# Altium integrated library ON Semi Low VCE(Sat) Transistors.IntLib: 130 symbols (part 2 of 3)
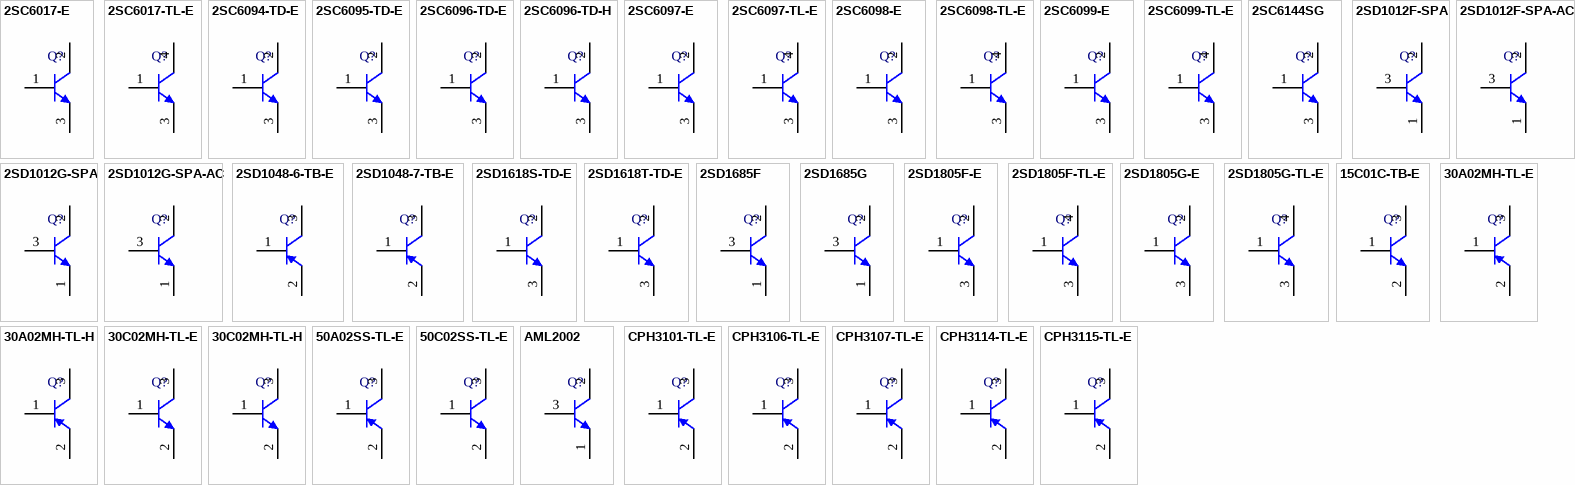
[diagram p4: symbols 2SC6017-E to CPH3115-TL-E]

## 2SC6097-TL-E
designator Q?
Bipolar Transistor, 60 V, 3 A, Low VCE(sat), NPN Single, 3-Pin DPAK, Pb-Free, Tape and Reel; Manufacturer: On Semiconductor; PartNumber: 2SC6097-TL-E; hFE Max: 600; hFE Min: 300; IC Continuous (A): 3; V(BR)CEO Min (V): 60; PackageReference: DPAK-3; PackageDescription: 3-Pin Flange Mount, Body 6.5 x 5.5 mm, Pitch 2.3 mm; Supplier 1: Digi-Key; Supplier Part Number 1: 2SC6097-TL-E-ND; Supplier 2: Newark; Supplier Part Number 2: 52T9089; Supplier 3: Mouser; Supplier Part Number 3: 863-2SC6097-TL-E; Packing: Tape and Reel; Polarity: NPN; RoHS: TRUE; Mounting Technology: Surface Mount; ComponentLink1Description: Manufacturer URL; ComponentLink1URL: http://www.onsemi.com/; ComponentLink2Description: Datasheet; ComponentLink2URL: http://www.onsemi.com/pub_link/Collateral/2SC6097-D.PDF; ComponentLink3Description: Package Specification; ComponentLink3URL: http://www.onsemi.com/pub_link/Collateral/2SB1204-D.PDF
footprint ONSC-DPAK-3_V (DPAK, 3-Leads, Body 6.5x5.5mm, Pitch 2.3mm)
pins: 1 B, 3 E, 4 C

## 2SC6098-E
designator Q?
Bipolar Transistor, 80 V, 2.5 A, Low VCE(sat), NPN Single, 3-Pin IPAK, Pb-Free, Bulk Bag; Manufacturer: On Semiconductor; PartNumber: 2SC6098-E; hFE Max: 600; hFE Min: 300; IC Continuous (A): 2.5; V(BR)CEO Min (V): 80; PackageVersion: Rev. O, 01/2012; PackageReference: IPAK-3-369AJ; PackageDescription: 3-Pin Flange Mount, Vertical Straight Lead, Body 6.5 x 5.5 mm, Pitch 2.3 mm; Supplier 1: Digi-Key; Supplier Part Number 1: 2SC6098-E-ND; Supplier 2: Mouser; Supplier Part Number 2: 863-2SC6098-E; Packing: Bulk Bag; Polarity: NPN; RoHS: TRUE; Mounting Technology: Through Hole; ComponentLink1Description: Manufacturer URL; ComponentLink1URL: http://www.onsemi.com/; ComponentLink2Description: Datasheet; ComponentLink2URL: http://www.onsemi.com/pub_link/Collateral/ENA0413-D.PDF; ComponentLink3Description: Package Specification; ComponentLink3URL: http://www.onsemi.cn/pub_link/Collateral/369AJ.PDF
footprint ONSC-IPAK-3-369AJ (FM, 3-Leads, Body 6.7x2.5mm, Pitch 2.3mm)
pins: 1 B, 2 C, 3 E

## 2SC6098-TL-E
designator Q?
Bipolar Transistor, 80 V, 2.5 A, Low VCE(sat), NPN Single, 3-Pin DPAK, Pb-Free, Tape and Reel; Manufacturer: On Semiconductor; PartNumber: 2SC6098-TL-E; hFE Max: 600; hFE Min: 300; IC Continuous (A): 2.5; V(BR)CEO Min (V): 80; PackageReference: DPAK-3; PackageDescription: 3-Pin Flange Mount, Body 6.5 x 5.5 mm, Pitch 2.3 mm; Supplier 1: Digi-Key; Supplier Part Number 1: 2SC6098-TL-E-ND; Supplier 2: Newark; Supplier Part Number 2: 07W7681; Supplier 3: Mouser; Supplier Part Number 3: 863-2SC6098-TL-E; Packing: Tape and Reel; Polarity: NPN; RoHS: TRUE; Mounting Technology: Surface Mount; ComponentLink1Description: Manufacturer URL; ComponentLink1URL: http://www.onsemi.com/; ComponentLink2Description: Datasheet; ComponentLink2URL: http://www.onsemi.com/pub_link/Collateral/ENA0413-D.PDF; ComponentLink3Description: Package Specification; ComponentLink3URL: http://www.onsemi.com/pub_link/Collateral/2SB1204-D.PDF
footprint ONSC-DPAK-3_V (DPAK, 3-Leads, Body 6.5x5.5mm, Pitch 2.3mm)
pins: 1 B, 3 E, 4 C

## 2SC6099-E
designator Q?
Bipolar Transistor, 100 V, 2 A, Low VCE(sat), NPN Single, 3-Pin IPAK, Pb-Free, Bulk Bag; Manufacturer: On Semiconductor; PartNumber: 2SC6099-E; hFE Max: 600; hFE Min: 300; IC Continuous (A): 2; V(BR)CEO Min (V): 100; VCE(sat) Max (V): 0.165; PackageVersion: Rev. O, 01/2012; PackageReference: IPAK-3-369AJ; PackageDescription: 3-Pin Flange Mount, Vertical Straight Lead, Body 6.5 x 5.5 mm, Pitch 2.3 mm; Supplier 1: Digi-Key; Supplier Part Number 1: 2SC6099-E-ND; Supplier 2: Mouser; Supplier Part Number 2: 863-2SC6099-E; Packing: Bulk Bag; Polarity: NPN; RoHS: TRUE; Mounting Technology: Through Hole; ComponentLink1Description: Manufacturer URL; ComponentLink1URL: http://www.onsemi.com/; ComponentLink2Description: Datasheet; ComponentLink2URL: http://www.onsemi.com/pub_link/Collateral/ENA0435-D.PDF; ComponentLink3Description: Package Specification; ComponentLink3URL: http://www.onsemi.cn/pub_link/Collateral/369AJ.PDF
footprint ONSC-IPAK-3-369AJ (FM, 3-Leads, Body 6.7x2.5mm, Pitch 2.3mm)
pins: 1 B, 2 C, 3 E

## 2SC6099-TL-E
designator Q?
Bipolar Transistor, 100 V, 2 A, Low VCE(sat), NPN Single, 3-Pin DPAK, Pb-Free, Tape and Reel; Manufacturer: On Semiconductor; PartNumber: 2SC6099-TL-E; hFE Max: 600; hFE Min: 300; IC Continuous (A): 2; V(BR)CEO Min (V): 100; VCE(sat) Max (V): 0.165; PackageReference: DPAK-3; PackageDescription: 3-Pin Flange Mount, Body 6.5 x 5.5 mm, Pitch 2.3 mm; Supplier 1: Digi-Key; Supplier Part Number 1: 2SC6099-TL-E-ND; Supplier 2: Mouser; Supplier Part Number 2: 863-2SC6099-TL-E; Packing: Tape and Reel; Polarity: NPN; RoHS: TRUE; Mounting Technology: Surface Mount; ComponentLink1Description: Manufacturer URL; ComponentLink1URL: http://www.onsemi.com/; ComponentLink2Description: Datasheet; ComponentLink2URL: http://www.onsemi.com/pub_link/Collateral/ENA0435-D.PDF; ComponentLink3Description: Package Specification; ComponentLink3URL: http://www.onsemi.com/pub_link/Collateral/2SB1204-D.PDF
footprint ONSC-DPAK-3_V (DPAK, 3-Leads, Body 6.5x5.5mm, Pitch 2.3mm)
pins: 1 B, 3 E, 4 C

## 2SC6144SG
designator Q?
Bipolar Transistor, 50 V, 10 A, Low VCE(sat) NPN, 3-Pin TO-220, Pb-Free, Tube; Manufacturer: On Semiconductor; PartNumber: 2SC6144SG; hFE Max: 560; hFE Min: 200; IC Continuous (A): 10; V(BR)CEO Min (V): 50; VCE(sat) Max (V): 0.36; PackageVersion: Rev. O, 01/2012; PackageReference: TO-220F-3FS-3-221AM; PackageDescription: 3-Pin Flange Mount, Vertical Straight Lead, Body 10.16 x 4.7 mm, Pitch 2.54 mm; Supplier 1: Digi-Key; Supplier Part Number 1: 2SC6144SGOS-ND; Supplier 2: Newark; Supplier Part Number 2: 07W7684; Supplier 3: Mouser; Supplier Part Number 3: 863-2SC6144SG; Polarity: NPN; RoHS: TRUE; Mounting Technology: Through Hole; ComponentLink1Description: Manufacturer URL; ComponentLink1URL: http://www.onsemi.com/; ComponentLink2Description: Datasheet; ComponentLink2URL: http://www.onsemi.com/pub_link/Collateral/ENA1800-D.PDF; ComponentLink3Description: Package Specification; ComponentLink3URL: http://www.onsemi.com/pub_link/Collateral/221AM.PDF
footprint ONSC-TO-220F-3FS-3-221AM (FM, 3-Leads, Body 10.4x4.9mm, Pitch 2.54mm)
pins: 1 B, 2 C, 3 E

## 2SD1012F-SPA
designator Q?
Bipolar Transistor, 15 V, 0.7 A, Low VCE(sat), NPN Single, 3-Pin TO-92, Pb-Free, Bulk Bag; Manufacturer: On Semiconductor; PartNumber: 2SD1012F-SPA; hFE Max: 320; hFE Min: 160; IC Continuous (A): 0.7; V(BR)CEO Min (V): 15; PackageVersion: Rev. O, 02/2012; PackageReference: TO-92-3-135AC; PackageDescription: 3-Pin Transistor Outline, Body 4 x 2.2 mm, Pitch 1.3 mm; Supplier 1: Digi-Key; Supplier Part Number 1: 2SD1012F-SPA-ND; Supplier 2: Mouser; Supplier Part Number 2: 863-2SD1012F-SPA; Packing: Bulk Bag; Polarity: NPN; RoHS: TRUE; Mounting Technology: Through Hole; ComponentLink1Description: Manufacturer URL; ComponentLink1URL: http://www.onsemi.com/; ComponentLink2Description: Datasheet; ComponentLink2URL: http://www.onsemi.com/pub_link/Collateral/EN0676-D.PDF; ComponentLink3Description: Package Specification; ComponentLink3URL: http://www.onsemi.com/pub_link/Collateral/135AC.PDF
footprint ONSC-TO-92-3-135AC (TO-92, 3-Leads, Body 4x2.2mm, Pitch 1.3mm)
pins: 1 E, 2 C, 3 B

## 2SD1012F-SPA-AC
designator Q?
Bipolar Transistor, 15 V, 0.7 A, Low VCE(sat), NPN Single, 3-Pin TO-92, Pb-Free, Fan-Fold; Manufacturer: On Semiconductor; PartNumber: 2SD1012F-SPA-AC; hFE Max: 320; hFE Min: 160; IC Continuous (A): 0.7; V(BR)CEO Min (V): 15; PackageVersion: Rev. O, 02/2012; PackageReference: TO-92-3-135AC; PackageDescription: 3-Pin Transistor Outline, Body 4 x 2.2 mm, Pitch 1.3 mm; Supplier 1: Digi-Key; Supplier Part Number 1: 2SD1012F-SPA-AC-ND; Supplier 2: Mouser; Supplier Part Number 2: 863-2SD1012F-SPA-AC; Packing: Fan-Fold; Polarity: NPN; RoHS: TRUE; Mounting Technology: Through Hole; ComponentLink1Description: Manufacturer URL; ComponentLink1URL: http://www.onsemi.com/; ComponentLink2Description: Datasheet; ComponentLink2URL: http://www.onsemi.com/pub_link/Collateral/EN0676-D.PDF; ComponentLink3Description: Package Specification; ComponentLink3URL: http://www.onsemi.com/pub_link/Collateral/135AC.PDF
footprint ONSC-TO-92-3-135AC (TO-92, 3-Leads, Body 4x2.2mm, Pitch 1.3mm)
pins: 1 E, 2 C, 3 B

## 2SD1012G-SPA
designator Q?
Bipolar Transistor, 15 V, 0.7 A, Low VCE(sat), NPN Single, 3-Pin TO-92, Pb-Free, Bulk Bag; Manufacturer: On Semiconductor; PartNumber: 2SD1012G-SPA; hFE Max: 560; hFE Min: 280; IC Continuous (A): 0.7; V(BR)CEO Min (V): 15; PackageVersion: Rev. O, 02/2012; PackageReference: TO-92-3-135AC; PackageDescription: 3-Pin Transistor Outline, Body 4 x 2.2 mm, Pitch 1.3 mm; Supplier 1: Digi-Key; Supplier Part Number 1: 2SD1012G-SPA-ND; Supplier 2: Mouser; Supplier Part Number 2: 863-2SD1012G-SPA; Packing: Bulk Bag; Polarity: NPN; RoHS: TRUE; Mounting Technology: Through Hole; ComponentLink1Description: Manufacturer URL; ComponentLink1URL: http://www.onsemi.com/; ComponentLink2Description: Datasheet; ComponentLink2URL: http://www.onsemi.com/pub_link/Collateral/EN0676-D.PDF; ComponentLink3Description: Package Specification; ComponentLink3URL: http://www.onsemi.com/pub_link/Collateral/135AC.PDF
footprint ONSC-TO-92-3-135AC (TO-92, 3-Leads, Body 4x2.2mm, Pitch 1.3mm)
pins: 1 E, 2 C, 3 B

## 2SD1012G-SPA-AC
designator Q?
Bipolar Transistor, 15 V, 0.7 A, Low VCE(sat), NPN Single, 3-Pin TO-92, Pb-Free, Fan-Fold; Manufacturer: On Semiconductor; PartNumber: 2SD1012G-SPA-AC; hFE Max: 560; hFE Min: 280; IC Continuous (A): 0.7; V(BR)CEO Min (V): 15; PackageVersion: Rev. O, 02/2012; PackageReference: TO-92-3-135AC; PackageDescription: 3-Pin Transistor Outline, Body 4 x 2.2 mm, Pitch 1.3 mm; Supplier 1: Digi-Key; Supplier Part Number 1: 2SD1012G-SPA-AC-ND; Supplier 2: Mouser; Supplier Part Number 2: 863-2SD1012G-SPA-AC; Packing: Fan-Fold; Polarity: NPN; RoHS: TRUE; Mounting Technology: Through Hole; ComponentLink1Description: Manufacturer URL; ComponentLink1URL: http://www.onsemi.com/; ComponentLink2Description: Datasheet; ComponentLink2URL: http://www.onsemi.com/pub_link/Collateral/EN0676-D.PDF; ComponentLink3Description: Package Specification; ComponentLink3URL: http://www.onsemi.com/pub_link/Collateral/135AC.PDF
footprint ONSC-TO-92-3-135AC (TO-92, 3-Leads, Body 4x2.2mm, Pitch 1.3mm)
pins: 1 E, 2 C, 3 B

## 2SD1048-6-TB-E
designator Q?
Bipolar Transistor, 15 V, 0.7 A, Low VCE(sat), NPN Single, 3-Pin SOT23, Pb-Free, Tape and Reel; Manufacturer: On Semiconductor; PartNumber: 2SD1048-6-TB-E; hFE Max: 400; hFE Min: 200; IC Continuous (A): 0.7; V(BR)CEO Min (V): 15; PackageReference: SOT23-3-318AN; PackageDescription: 3-Pin Small Outline Transistor, Body 2.9 x 1.5 mm, Pitch 0.95 mm; Supplier 1: Digi-Key; Supplier Part Number 1: 2SD1048-6-TB-E-ND; Supplier 2: Mouser; Supplier Part Number 2: 863-2SD1048-6-TB-E; Packing: Tape and Reel; Polarity: NPN; RoHS: TRUE; Mounting Technology: Surface Mount; ComponentLink1Description: Manufacturer URL; ComponentLink1URL: http://www.onsemi.com/; ComponentLink2Description: Datasheet; ComponentLink2URL: http://www.onsemi.com/pub_link/Collateral/EN694-D.PDF; ComponentLink3Description: Package Specification; ComponentLink3URL: http://www.onsemi.com/pub_link/Collateral/EN694-D.PDF
footprint ONSC-SOT23-3-318AN_V (SOT23, 3-Leads, Body 2.9x1.5mm, Pitch 0.95mm)
pins: 1 B, 2 E, 3 C

## 2SD1048-7-TB-E
designator Q?
Bipolar Transistor, 15 V, 0.7 A, Low VCE(sat), NPN Single, 3-Pin SOT23, Pb-Free, Tape and Reel; Manufacturer: On Semiconductor; PartNumber: 2SD1048-7-TB-E; hFE Max: 600; hFE Min: 300; IC Continuous (A): 0.7; V(BR)CEO Min (V): 15; PackageReference: SOT23-3-318AN; PackageDescription: 3-Pin Small Outline Transistor, Body 2.9 x 1.5 mm, Pitch 0.95 mm; Supplier 1: Digi-Key; Supplier Part Number 1: 2SD1048-7-TB-E-ND; Supplier 2: Mouser; Supplier Part Number 2: 863-2SD1048-7-TB-E; Packing: Tape and Reel; Polarity: NPN; RoHS: TRUE; Mounting Technology: Surface Mount; ComponentLink1Description: Manufacturer URL; ComponentLink1URL: http://www.onsemi.com/; ComponentLink2Description: Datasheet; ComponentLink2URL: http://www.onsemi.com/pub_link/Collateral/EN694-D.PDF; ComponentLink3Description: Package Specification; ComponentLink3URL: http://www.onsemi.com/pub_link/Collateral/EN694-D.PDF
footprint ONSC-SOT23-3-318AN_V (SOT23, 3-Leads, Body 2.9x1.5mm, Pitch 0.95mm)
pins: 1 B, 2 E, 3 C

## 2SD1618S-TD-E
designator Q?
Bipolar Transistor, 15 V, 0.7 A, Low VCE(sat), NPN Single, 3-Pin SOT-89, Pb-Free, Tape and Reel; Manufacturer: On Semiconductor; PartNumber: 2SD1618S-TD-E; hFE Max: 280; hFE Min: 140; IC Continuous (A): 0.7; V(BR)CEO Min (V): 15; PackageVersion: Rev. O, 04/2012; PackageReference: SOT-89_PCP-1-3-419AU; PackageDescription: 3-Pin Small Outline Transistor, Body 4.5 x 2.5 mm, Pitch 1.5 mm; Supplier 1: Digi-Key; Supplier Part Number 1: 2SD1618S-TD-E-ND; Supplier 2: Mouser; Supplier Part Number 2: 863-2SD1618S-TD-E; Packing: Tape and Reel; Polarity: NPN; RoHS: TRUE; Mounting Technology: Surface Mount; ComponentLink1Description: Manufacturer URL; ComponentLink1URL: http://www.onsemi.com/; ComponentLink2Description: Datasheet; ComponentLink2URL: http://www.onsemi.com/pub_link/Collateral/2SD1618.PDF; ComponentLink3Description: Package Specification; ComponentLink3URL: http://www.onsemi.com/pub_link/Collateral/ENA1087-D.PDF
footprint ONSC-SOT-89_PCP-1-3-419AU_V (SOT89, 3-Leads, Body 4.5x2.5mm, Pitch 1.5mm)
pins: 1 B, 2 C, 3 E

## 2SD1618T-TD-E
designator Q?
Bipolar Transistor, 15 V, 0.7 A, Low VCE(sat), NPN Single, 3-Pin SOT-89, Pb-Free, Tape and Reel; Manufacturer: On Semiconductor; PartNumber: 2SD1618T-TD-E; hFE Max: 400; hFE Min: 200; IC Continuous (A): 0.7; V(BR)CEO Min (V): 15; PackageVersion: Rev. O, 04/2012; PackageReference: SOT-89_PCP-1-3-419AU; PackageDescription: 3-Pin Small Outline Transistor, Body 4.5 x 2.5 mm, Pitch 1.5 mm; Supplier 1: Digi-Key; Supplier Part Number 1: 2SD1618T-TD-E-ND; Supplier 2: Mouser; Supplier Part Number 2: 863-2SD1618T-TD-E; Packing: Tape and Reel; Polarity: NPN; RoHS: TRUE; Mounting Technology: Surface Mount; ComponentLink1Description: Manufacturer URL; ComponentLink1URL: http://www.onsemi.com/; ComponentLink2Description: Datasheet; ComponentLink2URL: http://www.onsemi.com/pub_link/Collateral/2SD1618.PDF; ComponentLink3Description: Package Specification; ComponentLink3URL: http://www.onsemi.com/pub_link/Collateral/ENA1087-D.PDF
footprint ONSC-SOT-89_PCP-1-3-419AU_V (SOT89, 3-Leads, Body 4.5x2.5mm, Pitch 1.5mm)
pins: 1 B, 2 C, 3 E

## 2SD1685F
designator Q?
Bipolar Transistor, 20 V, 5 A, Low VCE(sat), NPN Single, 3-Pin TO-126, Pb-Free, Bulk Bag; Manufacturer: On Semiconductor; PartNumber: 2SD1685F; hFE Max: 320; hFE Min: 160; IC Continuous (A): 5; V(BR)CEO Min (V): 20; VCE(sat) Max (V): 0.5; PackageVersion: Rev. O, 01/2012; PackageReference: TO-126ML-3-77AC; PackageDescription: 3-Pin Flange Mount, Vertical Straight Lead, Body 8 x 3.3 mm, Pitch 2.4 mm; Supplier 1: Digi-Key; Supplier Part Number 1: 2SD1685F-ND; Supplier 2: Mouser; Supplier Part Number 2: 863-2SD1685F; Packing: Bulk Bag; Polarity: NPN; RoHS: TRUE; Mounting Technology: Through Hole; ComponentLink1Description: Manufacturer URL; ComponentLink1URL: http://www.onsemi.com/; ComponentLink2Description: Datasheet; ComponentLink2URL: http://www.onsemi.com/pub_link/Collateral/EN2042-D.PDF; ComponentLink3Description: Package Specification; ComponentLink3URL: http://www.onsemi.com/pub_link/Collateral/77AC.PDF
footprint ONSC-TO-126ML-3-77AC (FM, 3-Leads, Body 8.2x3.5mm, Pitch 2.4mm)
pins: 1 E, 2 C, 3 B

## 2SD1685G
designator Q?
Bipolar Transistor, 20 V, 5 A, Low VCE(sat), NPN Single, 3-Pin TO-126, Pb-Free, Bulk Bag; Manufacturer: On Semiconductor; PartNumber: 2SD1685G; hFE Max: 560; hFE Min: 280; IC Continuous (A): 5; V(BR)CEO Min (V): 20; VCE(sat) Max (V): 0.5; PackageVersion: Rev. O, 01/2012; PackageReference: TO-126ML-3-77AC; PackageDescription: 3-Pin Flange Mount, Vertical Straight Lead, Body 8 x 3.3 mm, Pitch 2.4 mm; Supplier 1: Digi-Key; Supplier Part Number 1: 2SD1685G-ND; Supplier 2: Mouser; Supplier Part Number 2: 863-2SD1685G; Packing: Bulk Bag; Polarity: NPN; RoHS: TRUE; Mounting Technology: Through Hole; ComponentLink1Description: Manufacturer URL; ComponentLink1URL: http://www.onsemi.com/; ComponentLink2Description: Datasheet; ComponentLink2URL: http://www.onsemi.com/pub_link/Collateral/EN2042-D.PDF; ComponentLink3Description: Package Specification; ComponentLink3URL: http://www.onsemi.com/pub_link/Collateral/77AC.PDF
footprint ONSC-TO-126ML-3-77AC (FM, 3-Leads, Body 8.2x3.5mm, Pitch 2.4mm)
pins: 1 E, 2 C, 3 B

## 2SD1805F-E
designator Q?
Bipolar Transistor, 20 V, 5 A, Low VCE(sat), NPN Single, 3-Pin IPAK, Pb-Free, Bulk Bag; Manufacturer: On Semiconductor; PartNumber: 2SD1805F-E; hFE Max: 320; hFE Min: 160; IC Continuous (A): 5; V(BR)CEO Min (V): 20; VCE(sat) Max (V): 0.5; PackageVersion: Rev. O, 01/2012; PackageReference: IPAK-3-369AJ; PackageDescription: 3-Pin Flange Mount, Vertical Straight Lead, Body 6.5 x 5.5 mm, Pitch 2.3 mm; Supplier 1: Digi-Key; Supplier Part Number 1: 2SD1805F-E-ND; Supplier 2: Mouser; Supplier Part Number 2: 863-2SD1805F-E; Packing: Bulk Bag; Polarity: NPN; RoHS: TRUE; Mounting Technology: Through Hole; ComponentLink1Description: Manufacturer URL; ComponentLink1URL: http://www.onsemi.com/; ComponentLink2Description: Datasheet; ComponentLink2URL: http://www.onsemi.com/pub_link/Collateral/2SD1805-D.PDF; ComponentLink3Description: Package Specification; ComponentLink3URL: http://www.onsemi.cn/pub_link/Collateral/369AJ.PDF
footprint ONSC-IPAK-3-369AJ (FM, 3-Leads, Body 6.7x2.5mm, Pitch 2.3mm)
pins: 1 B, 2 C, 3 E

## 2SD1805F-TL-E
designator Q?
Bipolar Transistor, 20 V, 5 A, Low VCE(sat), NPN Single, 3-Pin DPAK, Pb-Free, Tape and Reel; Manufacturer: On Semiconductor; PartNumber: 2SD1805F-TL-E; hFE Max: 320; hFE Min: 160; IC Continuous (A): 5; V(BR)CEO Min (V): 20; VCE(sat) Max (V): 0.5; PackageReference: DPAK-3; PackageDescription: 3-Pin Flange Mount, Body 6.5 x 5.5 mm, Pitch 2.3 mm; Supplier 1: Digi-Key; Supplier Part Number 1: 2SD1805F-TL-E-ND; Supplier 2: Mouser; Supplier Part Number 2: 863-2SD1805F-TL-E; Packing: Tape and Reel; Polarity: NPN; RoHS: TRUE; Mounting Technology: Surface Mount; ComponentLink1Description: Manufacturer URL; ComponentLink1URL: http://www.onsemi.com/; ComponentLink2Description: Datasheet; ComponentLink2URL: http://www.onsemi.com/pub_link/Collateral/2SD1805-D.PDF; ComponentLink3Description: Package Specification; ComponentLink3URL: http://www.onsemi.com/pub_link/Collateral/2SB1204-D.PDF
footprint ONSC-DPAK-3_V (DPAK, 3-Leads, Body 6.5x5.5mm, Pitch 2.3mm)
pins: 1 B, 3 E, 4 C

## 2SD1805G-E
designator Q?
Bipolar Transistor, 20 V, 5 A, Low VCE(sat), NPN Single, 3-Pin IPAK, Pb-Free, Bulk Bag; Manufacturer: On Semiconductor; PartNumber: 2SD1805G-E; hFE Max: 560; hFE Min: 280; IC Continuous (A): 5; V(BR)CEO Min (V): 20; VCE(sat) Max (V): 0.5; PackageVersion: Rev. O, 01/2012; PackageReference: IPAK-3-369AJ; PackageDescription: 3-Pin Flange Mount, Vertical Straight Lead, Body 6.5 x 5.5 mm, Pitch 2.3 mm; Supplier 1: Digi-Key; Supplier Part Number 1: 2SD1805G-E-ND; Supplier 2: Mouser; Supplier Part Number 2: 863-2SD1805G-E; Packing: Bulk Bag; Polarity: NPN; RoHS: TRUE; Mounting Technology: Through Hole; ComponentLink1Description: Manufacturer URL; ComponentLink1URL: http://www.onsemi.com/; ComponentLink2Description: Datasheet; ComponentLink2URL: http://www.onsemi.com/pub_link/Collateral/2SD1805-D.PDF; ComponentLink3Description: Package Specification; ComponentLink3URL: http://www.onsemi.cn/pub_link/Collateral/369AJ.PDF
footprint ONSC-IPAK-3-369AJ (FM, 3-Leads, Body 6.7x2.5mm, Pitch 2.3mm)
pins: 1 B, 2 C, 3 E

## 2SD1805G-TL-E
designator Q?
Bipolar Transistor, 20 V, 5 A, Low VCE(sat), NPN Single, 3-Pin DPAK, Pb-Free, Tape and Reel; Manufacturer: On Semiconductor; PartNumber: 2SD1805G-TL-E; hFE Max: 560; hFE Min: 280; IC Continuous (A): 5; V(BR)CEO Min (V): 20; VCE(sat) Max (V): 0.5; PackageReference: DPAK-3; PackageDescription: 3-Pin Flange Mount, Body 6.5 x 5.5 mm, Pitch 2.3 mm; Supplier 1: Digi-Key; Supplier Part Number 1: 2SD1805G-TL-E-ND; Supplier 2: Mouser; Supplier Part Number 2: 863-2SD1805G-TL-E; Packing: Tape and Reel; Polarity: NPN; RoHS: TRUE; Mounting Technology: Surface Mount; ComponentLink1Description: Manufacturer URL; ComponentLink1URL: http://www.onsemi.com/; ComponentLink2Description: Datasheet; ComponentLink2URL: http://www.onsemi.com/pub_link/Collateral/2SD1805-D.PDF; ComponentLink3Description: Package Specification; ComponentLink3URL: http://www.onsemi.com/pub_link/Collateral/2SB1204-D.PDF
footprint ONSC-DPAK-3_V (DPAK, 3-Leads, Body 6.5x5.5mm, Pitch 2.3mm)
pins: 1 B, 3 E, 4 C

## 15C01C-TB-E
designator Q?
Bipolar Transistor, 15 V, 0.7 A, Low VCE(sat) NPN Single, 3-Pin SC-59, Pb-Free, Tape and Reel; Manufacturer: On Semiconductor; PartNumber: 15C01C-TB-E; hFE Max: 800; hFE Min: 300; IC Continuous (A): 0.7; V(BR)CEO Min (V): 15; VCE(sat) Max (V): 0.3; PackageVersion: Rev. O, 04/2012; PackageReference: SC-59-3-318AN; PackageDescription: 3-Pin Small Outline Transistor, Body 2.9 x 1.5 mm, Pitch 0.95 mm; Supplier 1: Digi-Key; Supplier Part Number 1: 15C01C-TB-E-ND; Supplier 2: Newark; Supplier Part Number 2: 07W7559; Supplier 3: Mouser; Supplier Part Number 3: 863-15C01C-TB-E; Packing: Tape and Reel; Polarity: NPN; RoHS: TRUE; Mounting Technology: Surface Mount; ComponentLink1Description: Manufacturer URL; ComponentLink1URL: http://www.onsemi.com/; ComponentLink2Description: Datasheet; ComponentLink2URL: http://www.onsemi.com/pub_link/Collateral/EN7504-D.PDF; ComponentLink3Description: Package Specification; ComponentLink3URL: http://www.onsemi.com/pub_link/Collateral/318AN.PDF
footprint ONSC-SC-59-3-318AN_V (SOT23, 3-Leads, Body 2.9x1.5mm, Pitch 0.95mm)
pins: 1 B, 2 E, 3 C

## 30A02MH-TL-E
designator Q?
Bipolar Transistor, -30 V, -0.7 A, Low VCE(sat) PNP Single, 3-Pin SC70, Pb-Free, Tape and Reel; Manufacturer: On Semiconductor; PartNumber: 30A02MH-TL-E; hFE Max: 500; hFE Min: 200; VCE(sat) Max (V): -0.22; PackageReference: MCPH-3; PackageDescription: 3-Pin Small Outline Transistor, Body 2 x 1.6 mm, Pitch 0.65 mm; Supplier 1: Digi-Key; Supplier Part Number 1: 30A02MH-TL-E-ND; Supplier 2: Mouser; Supplier Part Number 2: 863-30A02MH-TL-E; IC Continuous (A): -0.7; Packing: Tape and Reel; Polarity: PNP; RoHS: TRUE; V(BR)CEO Min (V): -30; Mounting Technology: Surface Mount; ComponentLink1Description: Manufacturer URL; ComponentLink1URL: http://www.onsemi.com/; ComponentLink2Description: Datasheet; ComponentLink2URL: http://www.onsemi.com/pub_link/Collateral/30A02MH-D.PDF; ComponentLink3Description: Package Specification; ComponentLink3URL: http://www.onsemi.com/pub_link/Collateral/EN7354-D.PDF
footprint ONSC-MCPH-3_V (SOT23, 3-Leads, Body 2x1.6mm, Pitch 0.65mm)
pins: 1 B, 2 E, 3 C

## 30A02MH-TL-H
designator Q?
Bipolar Transistor, -30 V, -0.7 A, Low VCE(sat) PNP Single, 3-Pin SC70, Pb-Free, Tape and Reel; Manufacturer: On Semiconductor; PartNumber: 30A02MH-TL-H; hFE Max: 500; hFE Min: 200; VCE(sat) Max (V): -0.22; PackageReference: MCPH-3; PackageDescription: 3-Pin Small Outline Transistor, Body 2 x 1.6 mm, Pitch 0.65 mm; Supplier 1: Digi-Key; Supplier Part Number 1: 30A02MH-TL-H-ND; Supplier 2: Mouser; Supplier Part Number 2: 863-30A02MH-TL-H; IC Continuous (A): -0.7; Packing: Tape and Reel; Polarity: PNP; RoHS: TRUE; V(BR)CEO Min (V): -30; Mounting Technology: Surface Mount; ComponentLink1Description: Manufacturer URL; ComponentLink1URL: http://www.onsemi.com/; ComponentLink2Description: Datasheet; ComponentLink2URL: http://www.onsemi.com/pub_link/Collateral/30A02MH-D.PDF; ComponentLink3Description: Package Specification; ComponentLink3URL: http://www.onsemi.com/pub_link/Collateral/EN7354-D.PDF
footprint ONSC-MCPH-3_V (SOT23, 3-Leads, Body 2x1.6mm, Pitch 0.65mm)
pins: 1 B, 2 E, 3 C

## 30C02MH-TL-E
designator Q?
Bipolar Transistor, 30 V, 0.7 A, Low VCE(sat) NPN Single, 3-Pin SC70, Pb-Free, Tape and Reel; Manufacturer: On Semiconductor; PartNumber: 30C02MH-TL-E; hFE Max: 800; hFE Min: 300; IC Continuous (A): 0.7; V(BR)CEO Min (V): 30; VCE(sat) Max (V): 0.19; PackageReference: MCPH-3; PackageDescription: 3-Pin Small Outline Transistor, Body 2 x 1.6 mm, Pitch 0.65 mm; Supplier 1: Digi-Key; Supplier Part Number 1: 30C02MH-TL-E-ND; Supplier 2: Mouser; Supplier Part Number 2: 863-30C02MH-TL-E; Packing: Tape and Reel; Polarity: NPN; RoHS: TRUE; Mounting Technology: Surface Mount; ComponentLink1Description: Manufacturer URL; ComponentLink1URL: http://www.onsemi.com/; ComponentLink2Description: Datasheet; ComponentLink2URL: http://www.onsemi.com/pub_link/Collateral/EN7364-D.PDF; ComponentLink3Description: Package Specification; ComponentLink3URL: http://www.onsemi.com/pub_link/Collateral/EN7354-D.PDF
footprint ONSC-MCPH-3_V (SOT23, 3-Leads, Body 2x1.6mm, Pitch 0.65mm)
pins: 1 B, 2 E, 3 C

## 30C02MH-TL-H
designator Q?
Bipolar Transistor, 30 V, 0.7 A, Low VCE(sat) NPN Single, 3-Pin SC70, Pb-Free, Tape and Reel; Manufacturer: On Semiconductor; PartNumber: 30C02MH-TL-H; hFE Max: 800; hFE Min: 300; IC Continuous (A): 0.7; V(BR)CEO Min (V): 30; VCE(sat) Max (V): 0.19; PackageReference: MCPH-3; PackageDescription: 3-Pin Small Outline Transistor, Body 2 x 1.6 mm, Pitch 0.65 mm; Supplier 1: Digi-Key; Supplier Part Number 1: 30C02MH-TL-H-ND; Supplier 2: Mouser; Supplier Part Number 2: 863-30C02MH-TL-H; Packing: Tape and Reel; Polarity: NPN; RoHS: TRUE; Mounting Technology: Surface Mount; ComponentLink1Description: Manufacturer URL; ComponentLink1URL: http://www.onsemi.com/; ComponentLink2Description: Datasheet; ComponentLink2URL: http://www.onsemi.com/pub_link/Collateral/EN7364-D.PDF; ComponentLink3Description: Package Specification; ComponentLink3URL: http://www.onsemi.com/pub_link/Collateral/EN7354-D.PDF
footprint ONSC-MCPH-3_V (SOT23, 3-Leads, Body 2x1.6mm, Pitch 0.65mm)
pins: 1 B, 2 E, 3 C

## 50A02SS-TL-E
designator Q?
Bipolar Transistor, -50 V, -0.4 A, Low VCE(sat) PNP Single, 3-Pin SOT-723, Pb-Free, Tape and Reel; Manufacturer: On Semiconductor; PartNumber: 50A02SS-TL-E; hFE Max: 500; hFE Min: 200; VCE(sat) Max (V): -0.12; PackageVersion: Rev. O, 02/2012; PackageReference: SOT-723-3-631AC; PackageDescription: 3-Pin Small Outline Transistor, Body 1.4 x 0.8 mm, Pitch 0.45 mm; Supplier 1: Digi-Key; Supplier Part Number 1: 50A02SS-TL-E-ND; Supplier 2: Mouser; Supplier Part Number 2: 863-50A02SS-TL-E; IC Continuous (A): -0.4; Packing: Tape and Reel; Polarity: PNP; RoHS: TRUE; V(BR)CEO Min (V): -50; Mounting Technology: Surface Mount; ComponentLink1Description: Manufacturer URL; ComponentLink1URL: http://www.onsemi.com/; ComponentLink2Description: Datasheet; ComponentLink2URL: http://www.onsemi.com/pub_link/Collateral/EN7491-D.PDF; ComponentLink3Description: Package Specification; ComponentLink3URL: http://www.onsemi.com/pub_link/Collateral/631AC.PDF
footprint ONSC-SOT-723-3-631AC_V (SOT, 3-Leads, Body 1.4x0.8mm, Pitch 0.45mm)
pins: 1 B, 2 E, 3 C

## 50C02SS-TL-E
designator Q?
Bipolar Transistor, 50 V, 0.4 A, Low VCE(sat) NPN Single, 3-Pin SOT-723, Pb-Free, Tape and Reel; Manufacturer: On Semiconductor; PartNumber: 50C02SS-TL-E; hFE Max: 800; hFE Min: 300; IC Continuous (A): 0.4; V(BR)CEO Min (V): 50; VCE(sat) Max (V): 0.1; PackageVersion: Rev. O, 02/2012; PackageReference: SOT-723-3-631AC; PackageDescription: 3-Pin Small Outline Transistor, Body 1.4 x 0.8 mm, Pitch 0.45 mm; Supplier 1: Digi-Key; Supplier Part Number 1: 50C02SS-TL-E-ND; Supplier 2: Mouser; Supplier Part Number 2: 863-50C02SS-TL-E; Packing: Tape and Reel; Polarity: NPN; RoHS: TRUE; Mounting Technology: Surface Mount; ComponentLink1Description: Manufacturer URL; ComponentLink1URL: http://www.onsemi.com/; ComponentLink2Description: Datasheet; ComponentLink2URL: http://www.onsemi.com/pub_link/Collateral/EN7519-D.PDF; ComponentLink3Description: Package Specification; ComponentLink3URL: http://www.onsemi.com/pub_link/Collateral/631AC.PDF
footprint ONSC-SOT-723-3-631AC_V (SOT, 3-Leads, Body 1.4x0.8mm, Pitch 0.45mm)
pins: 1 B, 2 E, 3 C

## AML2002
designator Q?
Bipolar Transistor, 200 V, 0.7 A, Low VCE(sat), NPN Single, 3-Pin TO-126, Pb-Free, Tape and Reel; Manufacturer: On Semiconductor; PartNumber: AML2002; hFE Max: 560; hFE Min: 200; IC Continuous (A): 0.7; VCE(sat) Max (V): 0.22; PackageVersion: Rev. O, 01/2012; PackageReference: TO-126ML-3-77AC; PackageDescription: 3-Pin Flange Mount, Vertical Straight Lead, Body 8 x 3.3 mm, Pitch 2.4 mm; Supplier 1: Digi-Key; Supplier Part Number 1: AML2002-ND; Supplier 2: Newark; Supplier Part Number 2: 65T1046; Supplier 3: Mouser; Supplier Part Number 3: 863-AML2002; Packing: Tape and Reel; Polarity: NPN; RoHS: TRUE; V(BR)CEO Min (V): 200; Mounting Technology: Through Hole; ComponentLink1Description: Manufacturer URL; ComponentLink1URL: http://www.onsemi.com/; ComponentLink2Description: Datasheet; ComponentLink2URL: http://www.onsemi.com/pub_link/Collateral/ENA1837-D.PDF; ComponentLink3Description: Package Specification; ComponentLink3URL: http://www.onsemi.com/pub_link/Collateral/77AC.PDF
footprint ONSC-TO-126ML-3-77AC (FM, 3-Leads, Body 8.2x3.5mm, Pitch 2.4mm)
pins: 1 E, 2 C, 3 B

## CPH3101-TL-E
designator Q?
Bipolar Transistor, -30 V, -2 A, Low VCE(sat), PNP Single, 3-Pin CPH, Pb-Free, Tape and Reel; Manufacturer: On Semiconductor; PartNumber: CPH3101-TL-E; hFE Max: 400; hFE Min: 200; VCE(sat) Max (V): -0.6; PackageReference: CPH-3; PackageDescription: 3-Pin Small Outline Transistor, Body 2.9 x 1.6 mm, Pitch 0.95 mm; Supplier 1: Digi-Key; Supplier Part Number 1: CPH3101-TL-E-ND; Supplier 2: Mouser; Supplier Part Number 2: 863-CPH3101-TL-E; IC Continuous (A): -2; Packing: Tape and Reel; Polarity: PNP; RoHS: TRUE; V(BR)CEO Min (V): -30; Mounting Technology: Surface Mount; ComponentLink1Description: Manufacturer URL; ComponentLink1URL: http://www.onsemi.com/; ComponentLink2Description: Datasheet; ComponentLink2URL: http://www.onsemi.com/pub_link/Collateral/EN6006-D.PDF; ComponentLink3Description: Package Specification; ComponentLink3URL: http://www.onsemi.com/pub_link/Collateral/50A02CH-D.PDF
footprint ONSC-CPH-3_V (SOT23, 3-Leads, Body 2.9x1.6mm, Pitch 0.95mm)
pins: 1 B, 2 E, 3 C

## CPH3106-TL-E
designator Q?
Bipolar Transistor, -12 V, -3 A, Low VCE(sat), PNP Single, 3-Pin CPH, Pb-Free, Tape and Reel; Manufacturer: On Semiconductor; PartNumber: CPH3106-TL-E; hFE Max: 560; hFE Min: 200; VCE(sat) Max (V): -0.165; PackageReference: CPH-3; PackageDescription: 3-Pin Small Outline Transistor, Body 2.9 x 1.6 mm, Pitch 0.95 mm; Supplier 1: Digi-Key; Supplier Part Number 1: CPH3106-TL-E-ND; Supplier 2: Mouser; Supplier Part Number 2: 863-CPH3106-TL-E; IC Continuous (A): -3; Packing: Tape and Reel; Polarity: PNP; RoHS: TRUE; V(BR)CEO Min (V): -12; Mounting Technology: Surface Mount; ComponentLink1Description: Manufacturer URL; ComponentLink1URL: http://www.onsemi.com/; ComponentLink2Description: Datasheet; ComponentLink2URL: http://www.onsemi.com/pub_link/Collateral/CPH3106-D.PDF; ComponentLink3Description: Package Specification; ComponentLink3URL: http://www.onsemi.com/pub_link/Collateral/50A02CH-D.PDF
footprint ONSC-CPH-3_V (SOT23, 3-Leads, Body 2.9x1.6mm, Pitch 0.95mm)
pins: 1 B, 2 E, 3 C

## CPH3107-TL-E
designator Q?
Bipolar Transistor, -15 V, -6 A, Low VCE(sat), PNP Single, 3-Pin CPH, Pb-Free, Tape and Reel; Manufacturer: On Semiconductor; PartNumber: CPH3107-TL-E; hFE Max: 560; hFE Min: 200; VCE(sat) Max (V): -0.15; PackageReference: CPH-3; PackageDescription: 3-Pin Small Outline Transistor, Body 2.9 x 1.6 mm, Pitch 0.95 mm; Supplier 1: Digi-Key; Supplier Part Number 1: CPH3107-TL-E-ND; Supplier 2: Mouser; Supplier Part Number 2: 863-CPH3107-TL-E; IC Continuous (A): -6; Packing: Tape and Reel; Polarity: PNP; RoHS: TRUE; V(BR)CEO Min (V): -15; Mounting Technology: Surface Mount; ComponentLink1Description: Manufacturer URL; ComponentLink1URL: http://www.onsemi.com/; ComponentLink2Description: Datasheet; ComponentLink2URL: http://www.onsemi.com/pub_link/Collateral/EN6077-D.PDF; ComponentLink3Description: Package Specification; ComponentLink3URL: http://www.onsemi.com/pub_link/Collateral/50A02CH-D.PDF
footprint ONSC-CPH-3_V (SOT23, 3-Leads, Body 2.9x1.6mm, Pitch 0.95mm)
pins: 1 B, 2 E, 3 C

## CPH3114-TL-E
designator Q?
Bipolar Transistor, -15 V, -1.5 A, Low VCE(sat), PNP Single, 3-Pin CPH, Pb-Free, Tape and Reel; Manufacturer: On Semiconductor; PartNumber: CPH3114-TL-E; hFE Max: 560; hFE Min: 200; PackageReference: CPH-3; PackageDescription: 3-Pin Small Outline Transistor, Body 2.9 x 1.6 mm, Pitch 0.95 mm; Supplier 1: Digi-Key; Supplier Part Number 1: CPH3114-TL-E-ND; Supplier 2: Mouser; Supplier Part Number 2: 863-CPH3114-TL-E; IC Continuous (A): -1.5; Packing: Tape and Reel; Polarity: PNP; RoHS: TRUE; V(BR)CEO Min (V): -15; Mounting Technology: Surface Mount; ComponentLink1Description: Manufacturer URL; ComponentLink1URL: http://www.onsemi.com/; ComponentLink2Description: Datasheet; ComponentLink2URL: http://www.onsemi.com/pub_link/Collateral/EN6394-D.PDF; ComponentLink3Description: Package Specification; ComponentLink3URL: http://www.onsemi.com/pub_link/Collateral/50A02CH-D.PDF
footprint ONSC-CPH-3_V (SOT23, 3-Leads, Body 2.9x1.6mm, Pitch 0.95mm)
pins: 1 B, 2 E, 3 C

## CPH3115-TL-E
designator Q?
Bipolar Transistor, -30 V, -1.5 A, Low VCE(sat), PNP Single, 3-Pin CPH, Pb-Free, Tape and Reel; Manufacturer: On Semiconductor; PartNumber: CPH3115-TL-E; hFE Max: 560; hFE Min: 200; VCE(sat) Max (V): -0.375; PackageReference: CPH-3; PackageDescription: 3-Pin Small Outline Transistor, Body 2.9 x 1.6 mm, Pitch 0.95 mm; Supplier 1: Digi-Key; Supplier Part Number 1: CPH3115-TL-E-ND; Supplier 2: Mouser; Supplier Part Number 2: 863-CPH3115-TL-E; IC Continuous (A): -1.5; Packing: Tape and Reel; Polarity: PNP; RoHS: TRUE; V(BR)CEO Min (V): -30; Mounting Technology: Surface Mount; ComponentLink1Description: Manufacturer URL; ComponentLink1URL: http://www.onsemi.com/; ComponentLink2Description: Datasheet; ComponentLink2URL: http://www.onsemi.com/pub_link/Collateral/EN6344-D.PDF; ComponentLink3Description: Package Specification; ComponentLink3URL: http://www.onsemi.com/pub_link/Collateral/50A02CH-D.PDF
footprint ONSC-CPH-3_V (SOT23, 3-Leads, Body 2.9x1.6mm, Pitch 0.95mm)
pins: 1 B, 2 E, 3 C

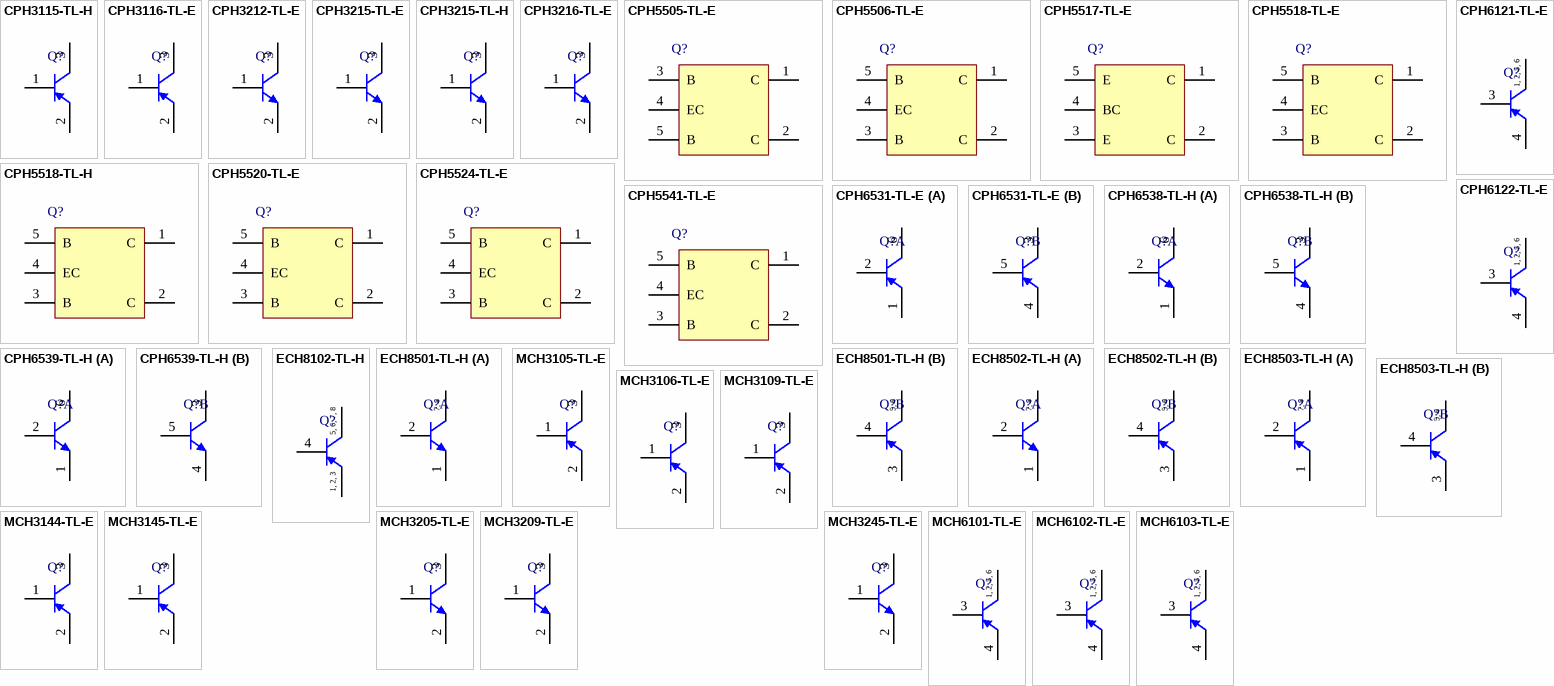
[diagram p2: symbols CPH3115-TL-H to MCH6103-TL-E]

## CPH3115-TL-H
designator Q?
Bipolar Transistor, -30 V, -1.5 A, Low VCE(sat), PNP Single, 3-Pin CPH, Pb-Free, Tape and Reel; Manufacturer: On Semiconductor; PartNumber: CPH3115-TL-H; hFE Max: 560; hFE Min: 200; VCE(sat) Max (V): -0.375; PackageReference: CPH-3; PackageDescription: 3-Pin Small Outline Transistor, Body 2.9 x 1.6 mm, Pitch 0.95 mm; Supplier 1: Digi-Key; Supplier Part Number 1: CPH3115-TL-H-ND; Supplier 2: Mouser; Supplier Part Number 2: 863-CPH3115-TL-H; IC Continuous (A): -1.5; Packing: Tape and Reel; Polarity: PNP; RoHS: TRUE; V(BR)CEO Min (V): -30; Mounting Technology: Surface Mount; ComponentLink1Description: Manufacturer URL; ComponentLink1URL: http://www.onsemi.com/; ComponentLink2Description: Datasheet; ComponentLink2URL: http://www.onsemi.com/pub_link/Collateral/EN6344-D.PDF; ComponentLink3Description: Package Specification; ComponentLink3URL: http://www.onsemi.com/pub_link/Collateral/50A02CH-D.PDF
footprint ONSC-CPH-3_V (SOT23, 3-Leads, Body 2.9x1.6mm, Pitch 0.95mm)
pins: 1 B, 2 E, 3 C

## CPH3116-TL-E
designator Q?
Bipolar Transistor, -50 V, -1 A, Low VCE(sat), PNP Single, 3-Pin CPH, Pb-Free, Tape and Reel; Manufacturer: On Semiconductor; PartNumber: CPH3116-TL-E; hFE Max: 560; hFE Min: 200; PackageReference: CPH-3; PackageDescription: 3-Pin Small Outline Transistor, Body 2.9 x 1.6 mm, Pitch 0.95 mm; Supplier 1: Digi-Key; Supplier Part Number 1: CPH3116-TL-E-ND; Supplier 2: Mouser; Supplier Part Number 2: 863-CPH3116-TL-E; IC Continuous (A): -1; Packing: Tape and Reel; Polarity: PNP; RoHS: TRUE; V(BR)CEO Min (V): -50; Mounting Technology: Surface Mount; ComponentLink1Description: Manufacturer URL; ComponentLink1URL: http://www.onsemi.com/; ComponentLink2Description: Datasheet; ComponentLink2URL: http://www.onsemi.com/pub_link/Collateral/EN6405-D.PDF; ComponentLink3Description: Package Specification; ComponentLink3URL: http://www.onsemi.com/pub_link/Collateral/50A02CH-D.PDF
footprint ONSC-CPH-3_V (SOT23, 3-Leads, Body 2.9x1.6mm, Pitch 0.95mm)
pins: 1 B, 2 E, 3 C

## CPH3212-TL-E
designator Q?
Bipolar Transistor, 50 V, 5 A, Low VCE(sat), NPN Single, 3-Pin CPH, Pb-Free, Tape and Reel; Manufacturer: On Semiconductor; PartNumber: CPH3212-TL-E; hFE Max: 560; hFE Min: 200; IC Continuous (A): 5; V(BR)CEO Min (V): 50; VCE(sat) Max (V): 0.15; PackageReference: CPH-3; PackageDescription: 3-Pin Small Outline Transistor, Body 2.9 x 1.6 mm, Pitch 0.95 mm; Supplier 1: Digi-Key; Supplier Part Number 1: CPH3212-TL-E-ND; Supplier 2: Mouser; Supplier Part Number 2: 863-CPH3212-TL-E; Packing: Tape and Reel; Polarity: NPN; RoHS: TRUE; Mounting Technology: Surface Mount; ComponentLink1Description: Manufacturer URL; ComponentLink1URL: http://www.onsemi.com/; ComponentLink2Description: Datasheet; ComponentLink2URL: http://www.onsemi.com/pub_link/Collateral/CPH3212-D.PDF; ComponentLink3Description: Package Specification; ComponentLink3URL: http://www.onsemi.com/pub_link/Collateral/50A02CH-D.PDF
footprint ONSC-CPH-3_V (SOT23, 3-Leads, Body 2.9x1.6mm, Pitch 0.95mm)
pins: 1 B, 2 E, 3 C

## CPH3215-TL-E
designator Q?
Bipolar Transistor, 30 V, 1.5 A, Low VCE(sat), NPN Single, 3-Pin CPH, Pb-Free, Tape and Reel; Manufacturer: On Semiconductor; PartNumber: CPH3215-TL-E; hFE Max: 560; hFE Min: 200; IC Continuous (A): 1.5; V(BR)CEO Min (V): 30; VCE(sat) Max (V): 0.225; PackageReference: CPH-3; PackageDescription: 3-Pin Small Outline Transistor, Body 2.9 x 1.6 mm, Pitch 0.95 mm; Supplier 1: Digi-Key; Supplier Part Number 1: CPH3215-TL-E-ND; Supplier 2: Mouser; Supplier Part Number 2: 863-CPH3215-TL-E; Packing: Tape and Reel; Polarity: NPN; RoHS: TRUE; Mounting Technology: Surface Mount; ComponentLink1Description: Manufacturer URL; ComponentLink1URL: http://www.onsemi.com/; ComponentLink2Description: Datasheet; ComponentLink2URL: http://www.onsemi.com/pub_link/Collateral/EN6344-D.PDF; ComponentLink3Description: Package Specification; ComponentLink3URL: http://www.onsemi.com/pub_link/Collateral/50A02CH-D.PDF
footprint ONSC-CPH-3_V (SOT23, 3-Leads, Body 2.9x1.6mm, Pitch 0.95mm)
pins: 1 B, 2 E, 3 C

## CPH3215-TL-H
designator Q?
Bipolar Transistor, 30 V, 1.5 A, Low VCE(sat), NPN Single, 3-Pin CPH, Pb-Free, Tape and Reel; Manufacturer: On Semiconductor; PartNumber: CPH3215-TL-H; hFE Max: 560; hFE Min: 200; IC Continuous (A): 1.5; V(BR)CEO Min (V): 30; VCE(sat) Max (V): 0.225; PackageReference: CPH-3; PackageDescription: 3-Pin Small Outline Transistor, Body 2.9 x 1.6 mm, Pitch 0.95 mm; Supplier 1: Digi-Key; Supplier Part Number 1: CPH3215-TL-H-ND; Supplier 2: Mouser; Supplier Part Number 2: 863-CPH3215-TL-H; Packing: Tape and Reel; Polarity: NPN; RoHS: TRUE; Mounting Technology: Surface Mount; ComponentLink1Description: Manufacturer URL; ComponentLink1URL: http://www.onsemi.com/; ComponentLink2Description: Datasheet; ComponentLink2URL: http://www.onsemi.com/pub_link/Collateral/EN6344-D.PDF; ComponentLink3Description: Package Specification; ComponentLink3URL: http://www.onsemi.com/pub_link/Collateral/50A02CH-D.PDF
footprint ONSC-CPH-3_V (SOT23, 3-Leads, Body 2.9x1.6mm, Pitch 0.95mm)
pins: 1 B, 2 E, 3 C

## CPH3216-TL-E
designator Q?
Bipolar Transistor, 50 V, 1 A, Low VCE(sat), NPN Single, 3-Pin CPH, Pb-Free, Tape and Reel; Manufacturer: On Semiconductor; PartNumber: CPH3216-TL-E; hFE Max: 560; hFE Min: 200; IC Continuous (A): 1; V(BR)CEO Min (V): 50; PackageReference: CPH-3; PackageDescription: 3-Pin Small Outline Transistor, Body 2.9 x 1.6 mm, Pitch 0.95 mm; Supplier 1: Digi-Key; Supplier Part Number 1: CPH3216-TL-E-ND; Supplier 2: Mouser; Supplier Part Number 2: 863-CPH3216-TL-E; Packing: Tape and Reel; Polarity: NPN; RoHS: TRUE; Mounting Technology: Surface Mount; ComponentLink1Description: Manufacturer URL; ComponentLink1URL: http://www.onsemi.com/; ComponentLink2Description: Datasheet; ComponentLink2URL: http://www.onsemi.com/pub_link/Collateral/EN6405-D.PDF; ComponentLink3Description: Package Specification; ComponentLink3URL: http://www.onsemi.com/pub_link/Collateral/50A02CH-D.PDF
footprint ONSC-CPH-3_V (SOT23, 3-Leads, Body 2.9x1.6mm, Pitch 0.95mm)
pins: 1 B, 2 E, 3 C

## CPH5505-TL-E
designator Q?
Bipolar Transistors, -30 V, -3 A, Low VCE(sat), PNP Dual, 5-Pin CPH, Pb-Free, Tape and Reel; Manufacturer: On Semiconductor; PartNumber: CPH5505-TL-E; hFE Max: 560; hFE Min: 200; PackageReference: CPH-5; PackageDescription: 5-Pin Small Outline Transistor, Body 2.9 x 1.6 mm, Pitch 0.95 mm; Supplier 1: Digi-Key; Supplier Part Number 1: CPH5505-TL-E-ND; Supplier 2: Mouser; Supplier Part Number 2: 863-CPH5505-TL-E; IC Continuous (A): -3; Packing: Tape and Reel; Polarity: PNP; RoHS: TRUE; V(BR)CEO Min (V): -30; Mounting Technology: Surface Mount; ComponentLink1Description: Manufacturer URL; ComponentLink1URL: http://www.onsemi.com/; ComponentLink2Description: Datasheet; ComponentLink2URL: http://www.onsemi.cn/pub_link/Collateral/EN6479-D.PDF; ComponentLink3Description: Package Specification; ComponentLink3URL: http://www.onsemi.com/pub_link/Collateral/CPH5504-D.PDF
footprint ONSC-CPH-5_V (SOT23, 5-Leads, Body 2.9x1.6mm, Pitch 0.95mm)
pins: 1 C, 2 C, 3 B, 4 EC, 5 B

## CPH5506-TL-E
designator Q?
Bipolar Transistor, (-)30 V, (-)5 A, Low VCE(sat) Complementary, 3-Pin CPH, Pb-Free, Tape and Reel; Manufacturer: On Semiconductor; PartNumber: CPH5506-TL-E; hFE Max: 560; hFE Min: 200; IC Continuous (A): 1.5; V(BR)CEO Min (V): 30; PackageReference: CPH-5; PackageDescription: 5-Pin Small Outline Transistor, Body 2.9 x 1.6 mm, Pitch 0.95 mm; Supplier 1: Digi-Key; Supplier Part Number 1: CPH5506-TL-E-ND; Supplier 2: Mouser; Supplier Part Number 2: 863-CPH5506-TL-E; Packing: Tape and Reel; Polarity: Complementary; RoHS: TRUE; Mounting Technology: Surface Mount; ComponentLink1Description: Manufacturer URL; ComponentLink1URL: http://www.onsemi.com/; ComponentLink2Description: Datasheet; ComponentLink2URL: http://www.onsemi.com/pub_link/Collateral/CPH5506-D.PDF; ComponentLink3Description: Package Specification; ComponentLink3URL: http://www.onsemi.com/pub_link/Collateral/CPH5504-D.PDF
footprint ONSC-CPH-5_V (SOT23, 5-Leads, Body 2.9x1.6mm, Pitch 0.95mm)
pins: 1 C, 2 C, 3 B, 4 EC, 5 B

## CPH5517-TL-E
designator Q?
Bipolar Transistor, (-)50 V, (-)3 A, Low VCE(sat) Complementary, 5-Pin CPH, Pb-Free, Tape and Reel; Manufacturer: On Semiconductor; PartNumber: CPH5517-TL-E; hFE Max: 560; hFE Min: 200; IC Continuous (A): 1; V(BR)CEO Min (V): 50; PackageReference: CPH-5; PackageDescription: 5-Pin Small Outline Transistor, Body 2.9 x 1.6 mm, Pitch 0.95 mm; Supplier 1: Digi-Key; Supplier Part Number 1: CPH5517-TL-E-ND; Supplier 2: Mouser; Supplier Part Number 2: 863-CPH5517-TL-E; Packing: Tape and Reel; Polarity: Complementary; RoHS: TRUE; Mounting Technology: Surface Mount; ComponentLink1Description: Manufacturer URL; ComponentLink1URL: http://www.onsemi.com/; ComponentLink2Description: Datasheet; ComponentLink2URL: http://www.onsemi.com/pub_link/Collateral/CPH5517-D.PDF; ComponentLink3Description: Package Specification; ComponentLink3URL: http://www.onsemi.com/pub_link/Collateral/CPH5504-D.PDF
footprint ONSC-CPH-5_V (SOT23, 5-Leads, Body 2.9x1.6mm, Pitch 0.95mm)
pins: 1 C, 2 C, 3 E, 4 BC, 5 E

## CPH5518-TL-E
designator Q?
Bipolar Transistors, (-)50 V, (-)3 A, Low VCE(sat) Complementary Dual, 5-Pin CPH, Pb-Free, Tape and Reel; Manufacturer: On Semiconductor; PartNumber: CPH5518-TL-E; hFE Max: 560; hFE Min: 200; IC Continuous (A): 1; V(BR)CEO Min (V): 50; PackageReference: CPH-5; PackageDescription: 5-Pin Small Outline Transistor, Body 2.9 x 1.6 mm, Pitch 0.95 mm; Supplier 1: Digi-Key; Supplier Part Number 1: CPH5518-TL-E-ND; Supplier 2: Mouser; Supplier Part Number 2: 863-CPH5518-TL-E; Packing: Tape and Reel; Polarity: Complementary; RoHS: TRUE; Mounting Technology: Surface Mount; ComponentLink1Description: Manufacturer URL; ComponentLink1URL: http://www.onsemi.com/; ComponentLink2Description: Datasheet; ComponentLink2URL: http://www.onsemi.com/pub_link/Collateral/ENA0492-D.PDF; ComponentLink3Description: Package Specification; ComponentLink3URL: http://www.onsemi.com/pub_link/Collateral/CPH5504-D.PDF
footprint ONSC-CPH-5_V (SOT23, 5-Leads, Body 2.9x1.6mm, Pitch 0.95mm)
pins: 1 C, 2 C, 3 B, 4 EC, 5 B

## CPH5518-TL-H
designator Q?
Bipolar Transistors, (-)50 V, (-)3 A, Low VCE(sat) Complementary Dual, 5-Pin CPH, Pb-Free, Tape and Reel; Manufacturer: On Semiconductor; PartNumber: CPH5518-TL-H; hFE Max: 560; hFE Min: 200; IC Continuous (A): 1; V(BR)CEO Min (V): 50; PackageReference: CPH-5; PackageDescription: 5-Pin Small Outline Transistor, Body 2.9 x 1.6 mm, Pitch 0.95 mm; Supplier 1: Digi-Key; Supplier Part Number 1: CPH5518-TL-H-ND; Supplier 2: Mouser; Supplier Part Number 2: 863-CPH5518-TL-H; Packing: Tape and Reel; Polarity: Complementary; RoHS: TRUE; Mounting Technology: Surface Mount; ComponentLink1Description: Manufacturer URL; ComponentLink1URL: http://www.onsemi.com/; ComponentLink2Description: Datasheet; ComponentLink2URL: http://www.onsemi.com/pub_link/Collateral/ENA0492-D.PDF; ComponentLink3Description: Package Specification; ComponentLink3URL: http://www.onsemi.com/pub_link/Collateral/CPH5504-D.PDF
footprint ONSC-CPH-5_V (SOT23, 5-Leads, Body 2.9x1.6mm, Pitch 0.95mm)
pins: 1 C, 2 C, 3 B, 4 EC, 5 B

## CPH5520-TL-E
designator Q?
Bipolar Transistor, (-)50 V, (-)5 A, Low VCE(sat) Complementary, 5-Pin CPH, Pb-Free, Tape and Reel; Manufacturer: On Semiconductor; PartNumber: CPH5520-TL-E; hFE Max: 560; hFE Min: 200; IC Continuous (A): 2; V(BR)CEO Min (V): 50; PackageReference: CPH-5; PackageDescription: 5-Pin Small Outline Transistor, Body 2.9 x 1.6 mm, Pitch 0.95 mm; Supplier 1: Digi-Key; Supplier Part Number 1: CPH5520-TL-E-ND; Supplier 2: Mouser; Supplier Part Number 2: 863-CPH5520-TL-E; Packing: Tape and Reel; Polarity: Complementary; RoHS: TRUE; Mounting Technology: Surface Mount; ComponentLink1Description: Manufacturer URL; ComponentLink1URL: http://www.onsemi.com/; ComponentLink2Description: Datasheet; ComponentLink2URL: http://www.onsemi.com/pub_link/Collateral/ENA0485-D.PDF; ComponentLink3Description: Package Specification; ComponentLink3URL: http://www.onsemi.com/pub_link/Collateral/CPH5504-D.PDF
footprint ONSC-CPH-5_V (SOT23, 5-Leads, Body 2.9x1.6mm, Pitch 0.95mm)
pins: 1 C, 2 C, 3 B, 4 EC, 5 B

## CPH5524-TL-E
designator Q?
Bipolar Transistor, (-)50 V, (-)6 A, Low VCE(sat) Complementary, 5-Pin CPH, Pb-Free, Tape and Reel; Manufacturer: On Semiconductor; PartNumber: CPH5524-TL-E; hFE Max: 560; hFE Min: 200; IC Continuous (A): 3; V(BR)CEO Min (V): 50; PackageReference: CPH-5; PackageDescription: 5-Pin Small Outline Transistor, Body 2.9 x 1.6 mm, Pitch 0.95 mm; Supplier 1: Digi-Key; Supplier Part Number 1: CPH5524-TL-E-ND; Supplier 2: Mouser; Supplier Part Number 2: 863-CPH5524-TL-E; Packing: Tape and Reel; Polarity: Complementary; RoHS: TRUE; Mounting Technology: Surface Mount; ComponentLink1Description: Manufacturer URL; ComponentLink1URL: http://www.onsemi.com/; ComponentLink2Description: Datasheet; ComponentLink2URL: http://www.onsemi.com/pub_link/Collateral/CPH5524-D.PDF; ComponentLink3Description: Package Specification; ComponentLink3URL: http://www.onsemi.com/pub_link/Collateral/CPH5504-D.PDF
footprint ONSC-CPH-5_V (SOT23, 5-Leads, Body 2.9x1.6mm, Pitch 0.95mm)
pins: 1 C, 2 C, 3 B, 4 EC, 5 B

## CPH5541-TL-E
designator Q?
Bipolar Transistor, (-)30 V, (-)3 A, Low VCE(sat) Complementary, 5-Pin CPH, Pb-Free, Tape and Reel; Manufacturer: On Semiconductor; PartNumber: CPH5541-TL-E; IC Continuous (A): 0.7; V(BR)CEO Min (V): 30; PackageReference: CPH-5; PackageDescription: 5-Pin Small Outline Transistor, Body 2.9 x 1.6 mm, Pitch 0.95 mm; Supplier 1: Digi-Key; Supplier Part Number 1: CPH5541-TL-E-ND; Supplier 2: Newark; Supplier Part Number 2: 07W6751; Supplier 3: Mouser; Supplier Part Number 3: 863-CPH5541-TL-E; Packing: Tape and Reel; Polarity: Complementary; RoHS: TRUE; Mounting Technology: Surface Mount; ComponentLink1Description: Manufacturer URL; ComponentLink1URL: http://www.onsemi.com/; ComponentLink2Description: Datasheet; ComponentLink2URL: http://www.onsemi.com/pub_link/Collateral/ENN8223-D.PDF; ComponentLink3Description: Package Specification; ComponentLink3URL: http://www.onsemi.com/pub_link/Collateral/CPH5504-D.PDF
footprint ONSC-CPH-5_V (SOT23, 5-Leads, Body 2.9x1.6mm, Pitch 0.95mm)
pins: 1 C, 2 C, 3 B, 4 EC, 5 B

## CPH6121-TL-E
designator Q?
Bipolar Transistor, -12 V, -3 A, Low VCE(sat), PNP Single, 6-Pin CPH, Pb-Free, Tape and Reel; Manufacturer: On Semiconductor; PartNumber: CPH6121-TL-E; hFE Max: 560; hFE Min: 200; VCE(sat) Max (V): -0.165; PackageReference: CPH-6; PackageDescription: 6-Pin Small Outline Transistor, Body 2.9 x 1.6 mm, Pitch 0.95 mm; Supplier 1: Digi-Key; Supplier Part Number 1: CPH6121-TL-E-ND; Supplier 2: Mouser; Supplier Part Number 2: 863-CPH6121-TL-E; IC Continuous (A): -3; Packing: Tape and Reel; Polarity: PNP; RoHS: TRUE; V(BR)CEO Min (V): -12; Mounting Technology: Surface Mount; ComponentLink1Description: Manufacturer URL; ComponentLink1URL: http://www.onsemi.com/; ComponentLink2Description: Datasheet; ComponentLink2URL: http://www.onsemi.com/pub_link/Collateral/CPH6121-D.PDF; ComponentLink3Description: Package Specification; ComponentLink3URL: http://www.onsemi.com/pub_link/Collateral/CPH6001A-D.PDF
footprint ONSC-CPH-6_V (SOT23, 6-Leads, Body 2.9x1.6mm, Pitch 0.95mm)
pins: 1 C, 2 C, 3 B, 4 E, 5 C, 6 C
text: 1, 2, 5, 6